# Altium footprint library GT12MSABE.PcbLib: 1 footprints
Each footprint in its own frame and in the unit in brackets; x right, y up, seen from the top. Pads: shape width x height; smd on the part's side, far side on the other; paste and mask are expansions set on the pad; w line width, h text height; cw(c..) or ccw(c..) is an arc to the next point about the centre after c.
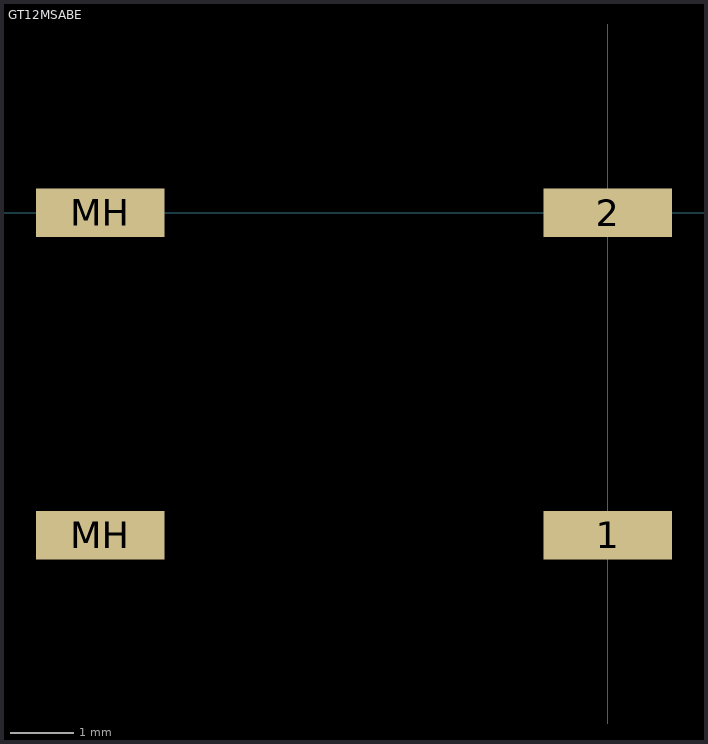
[diagram p0: the footprint, top view; thin cyan lines are the x and y axes]

## GT12MSABE [mil]
pads (4):
  rect 80x30 smd: 1(0,-200) 2(0,0) MH(-315,-200) MH(-315,0)